# Altium schematic symbol library SCH - DAC - TI DAC81402RHB.SCHLIB: 1 symbol
Pins are listed as number, name and electrical type; pins without a type are passive.

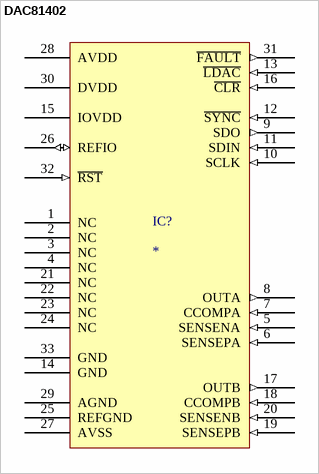
[diagram p0: symbol DAC81402]

## DAC81402
designator IC?
IC DAC 16BIT V-OUT 32VQFN
footprint TI VQFN32 RHB (Footprint not found)
pins: 1 NC "No connection.", 2 NC "No connection.", 3 NC "No connection.", 4 NC "No connection.", 5 SENSENA (in) "Channel-A sense pin for the negative voltage output load connection.", 6 SENSEPA (in) "Channel-A sense pin for the positive voltage output load connection.", 7 CCOMPA (in) "Channel-A external compensation capacitor connection pin. The addition of an external capacitor improves the output buffer stability with high capacitive loads at the OUTA pin by reducing the bandwidth of the output amplifier at the expense of increased settling time.", 8 OUTA (out) "Channel-A analog output voltage.", 9 SDO (out) "Serial interface data output. The SDO pin must be enabled before operation by setting the SDO-EN bit. Data are clocked out of the input shift register on either rising or falling edges of the SCLK pin as specified by the FSDO bit (rising edge by default).", 10 SCLK (in) "Serial interface clock.", 11 SDIN (in) "Serial interface data input. Data are clocked into the input shift register on each falling edge of the SCLK pin.", 12 ~{SYNC} (in) "Active low serial data enable. This input is the frame synchronization signal for the serial data. The serial interface input shift register is enable when SYNC is low.", 13 ~{LDAC} (in) "Active low synchronization signal. The DAC outputs of those channels configured in synchronous mode are updated simultaneously when the LDAC pin is low. Connect to IOVDD if unused.", 14 GND (power) "Digital ground reference point.", 15 IOVDD (power) "IO supply voltage. This pin sets the digital I/O operating voltage for the device.", 16 ~{CLR} (in) "Active-low clear input. Logic low on this pin clears all outputs to their clear code. Connect to IOVDD if unused.", 17 OUTB (out), 18 CCOMPB (in) "Channel-B external compensation capacitor connection pin. The addition of an external capacitor improves the output buffer stability with high capacitive loads at the OUTB pin by reducing the bandwidth of the output amplifier at the expense of increased settling time.", 19 SENSEPB (in) "Channel-B sense pin for the positive voltage output load connection.", 20 SENSENB (in) "Channel-B sense pin for the negative voltage output load connection.", 21 NC "No connection.", 22 NC "No connection.", 23 NC "No connection.", 24 NC "No connection.", 25 REFGND (power) "Ground reference point for the internal reference.", 26 REFIO (io) "Reference input to the device when operating with an external reference. Reference output voltage pin when using the internal reference. Connect a 150-nF capacitor to ground.", 27 AVSS (power) "Output buffers negative supply voltage.", 28 AVDD (power) "Output buffers positive supply voltage.", 29 AGND (power) "Analog ground reference point.", 30 DVDD (power) "Digital and analog supply voltage.", 31 ~{FAULT} (out) "FAULT is an open-drain, fault-condition output. An external 10-kΩ pullup resistor to a voltage no higher than IOVDD is required.", 32 ~{RST} (in) "Active-low reset input. Logic low on this pin causes the device to issue a power-on-reset event.", 33 GND (power) "The thermal pad is located on the package underside. The thermal pad should be connected to any internal PCB ground plane through multiple vias for good thermal performance."